# EAGLE library part TFP401A (library Public)
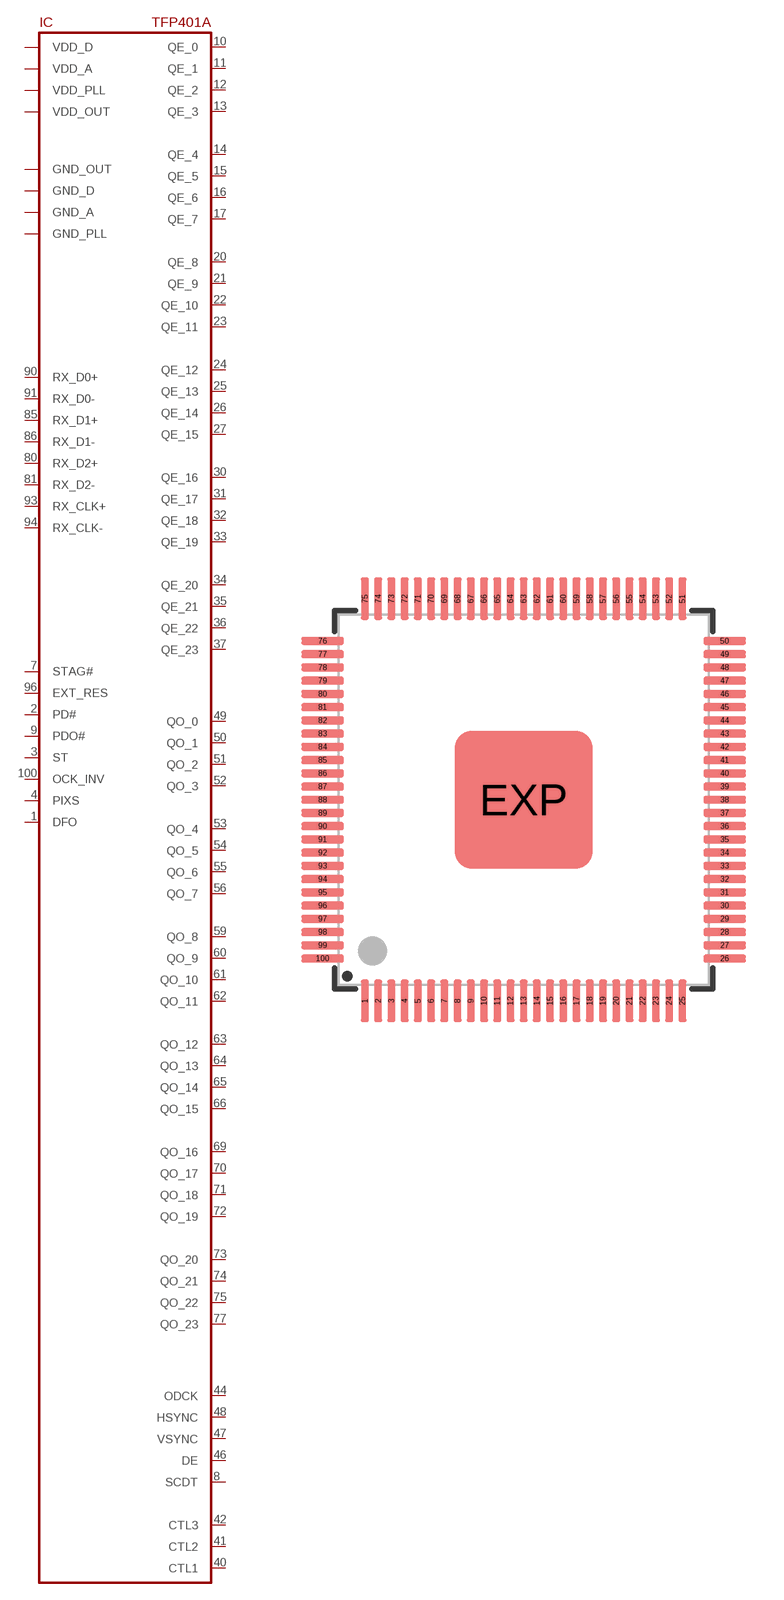
[diagram p142: symbol with the pads of TQFP100-0.5_POWERPAD; footprint TQFP100-0.5_POWERPAD]

Designator prefix IC

## TFP401A  [TQFP100-0.5_POWERPAD]
1  DFO
2  PD#
3  ST
4  PIXS
5  GND_D
6  VDD_D
7  STAG#
8  SCDT
9  PDO#
10  QE_0
11  QE_1
12  QE_2
13  QE_3
14  QE_4
15  QE_5
16  QE_6
17  QE_7
18  VDD_OUT
19  GND_OUT
20  QE_8
21  QE_9
22  QE_10
23  QE_11
24  QE_12
25  QE_13
26  QE_14
27  QE_15
28  GND_OUT
29  VDD_OUT
30  QE_16
31  QE_17
32  QE_18
33  QE_19
34  QE_20
35  QE_21
36  QE_22
37  QE_23
38  VDD_D
39  GND_D
40  CTL1
41  CTL2
42  CTL3
43  VDD_OUT
44  ODCK
45  GND_OUT
46  DE
47  VSYNC
48  HSYNC
49  QO_0
50  QO_1
51  QO_2
52  QO_3
53  QO_4
54  QO_5
55  QO_6
56  QO_7
57  VDD_OUT
58  GND_OUT
59  QO_8
60  QO_9
61  QO_10
62  QO_11
63  QO_12
64  QO_13
65  QO_14
66  QO_15
67  VDD_D
68  GND_D
69  QO_16
70  QO_17
71  QO_18
72  QO_19
73  QO_20
74  QO_21
75  QO_22
76  GND_OUT
77  QO_23
78  VDD_OUT
79  GND_A
80  RX_D2+
81  RX_D2-
82  VDD_A
83  GND_A
84  VDD_A
85  RX_D1+
86  RX_D1-
87  GND_A
88  VDD_A
89  GND_A
90  RX_D0+
91  RX_D0-
92  GND_A
93  RX_CLK+
94  RX_CLK-
95  VDD_A
96  EXT_RES
97  VDD_PLL
98  GND_PLL
99  VDD_D
100  OCK_INV
EXP  GND_D

## Footprint TQFP100-0.5_POWERPAD (pad centres in mm)
smd 0.3 x 1.6: 1 -6,-7.6; 2 -5.5,-7.6; 3 -5,-7.6; 4 -4.5,-7.6; 5 -4,-7.6; 6 -3.5,-7.6; 7 -3,-7.6; 8 -2.5,-7.6; 9 -2,-7.6; 10 -1.5,-7.6; 11 -1,-7.6; 12 -0.5,-7.6; 13 0,-7.6; 14 0.5,-7.6; 15 1,-7.6; 16 1.5,-7.6; 17 2,-7.6; 18 2.5,-7.6; 19 3,-7.6; 20 3.5,-7.6; 21 4,-7.6; 22 4.5,-7.6; 23 5,-7.6; 24 5.5,-7.6; 25 6,-7.6; 51 6,7.6; 52 5.5,7.6; 53 5,7.6; 54 4.5,7.6; 55 4,7.6; 56 3.5,7.6; 57 3,7.6; 58 2.5,7.6; 59 2,7.6; 60 1.5,7.6; 61 1,7.6; 62 0.5,7.6; 63 0,7.6; 64 -0.5,7.6; 65 -1,7.6; 66 -1.5,7.6; 67 -2,7.6; 68 -2.5,7.6; 69 -3,7.6; 70 -3.5,7.6; 71 -4,7.6; 72 -4.5,7.6; 73 -5,7.6; 74 -5.5,7.6; 75 -6,7.6
smd 1.6 x 0.3: 26 7.6,-6; 27 7.6,-5.5; 28 7.6,-5; 29 7.6,-4.5; 30 7.6,-4; 31 7.6,-3.5; 32 7.6,-3; 33 7.6,-2.5; 34 7.6,-2; 35 7.6,-1.5; 36 7.6,-1; 37 7.6,-0.5; 38 7.6,0; 39 7.6,0.5; 40 7.6,1; 41 7.6,1.5; 42 7.6,2; 43 7.6,2.5; 44 7.6,3; 45 7.6,3.5; 46 7.6,4; 47 7.6,4.5; 48 7.6,5; 49 7.6,5.5; 50 7.6,6; 76 -7.6,6; 77 -7.6,5.5; 78 -7.6,5; 79 -7.6,4.5; 80 -7.6,4; 81 -7.6,3.5; 82 -7.6,3; 83 -7.6,2.5; 84 -7.6,2; 85 -7.6,1.5; 86 -7.6,1; 87 -7.6,0.5; 88 -7.6,0; 89 -7.6,-0.5; 90 -7.6,-1; 91 -7.6,-1.5; 92 -7.6,-2; 93 -7.6,-2.5; 94 -7.6,-3; 95 -7.6,-3.5; 96 -7.6,-4; 97 -7.6,-4.5; 98 -7.6,-5; 99 -7.6,-5.5; 100 -7.6,-6
smd 5.2 x 5.2: EXP 0,0